# EAGLE library part SP4065-08ATG (library SP4065-08ATG)
LITTELFUSE - SP4065-08ATG - DIODE, ESD PROTECTION, 3.3V, MSOP Source: Datasheet <https://componentsearchengine.com/Datasheets/2/SP4065-08ATG.pdf>
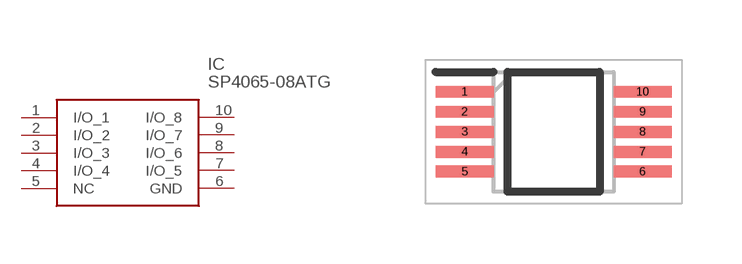
[diagram p0: symbol with the pads of SOP50P488X110-10N; footprint SOP50P488X110-10N]

Designator prefix IC

## SP4065-08ATG (Description: LITTELFUSE - SP4065-08ATG - DIODE, ESD PROTECTION, 3.3V, MSOP; Height: 1.1mm; Manufacturer_Name: LITTELFUSE; Manufacturer_Part_Number: SP4065-08ATG; Mouser_Part_Number: 576-SP4065-08ATG; Mouser_Price-Stock: https://www.mouser.co.uk/ProductDetail/Littelfuse/SP4065-08ATG?qs=0Dbrz4iFQy%2FklE79eCp2zA%3D%3D)  [SOP50P488X110-10N]
1  I/O_1
2  I/O_2
3  I/O_3
4  I/O_4
5  NC  nc
6  GND
7  I/O_5
8  I/O_6
9  I/O_7
10  I/O_8

## Footprint SOP50P488X110-10N (pad centres in mm)
MSOP-10
smd 1.45 x 0.3: 1 -2.225,1; 2 -2.225,0.5; 3 -2.225,0; 4 -2.225,-0.5; 5 -2.225,-1; 6 2.225,-1; 7 2.225,-0.5; 8 2.225,0; 9 2.225,0.5; 10 2.225,1